# Altium footprint library Misc.PCBLIB: 58 footprints (part 3 of 4)
Each footprint in its own frame and in the unit in brackets; x right, y up, seen from the top. Pads: shape width x height; smd on the part's side, far side on the other; paste and mask are expansions set on the pad; w line width, h text height; cw(c..) or ccw(c..) is an arc to the next point about the centre after c.
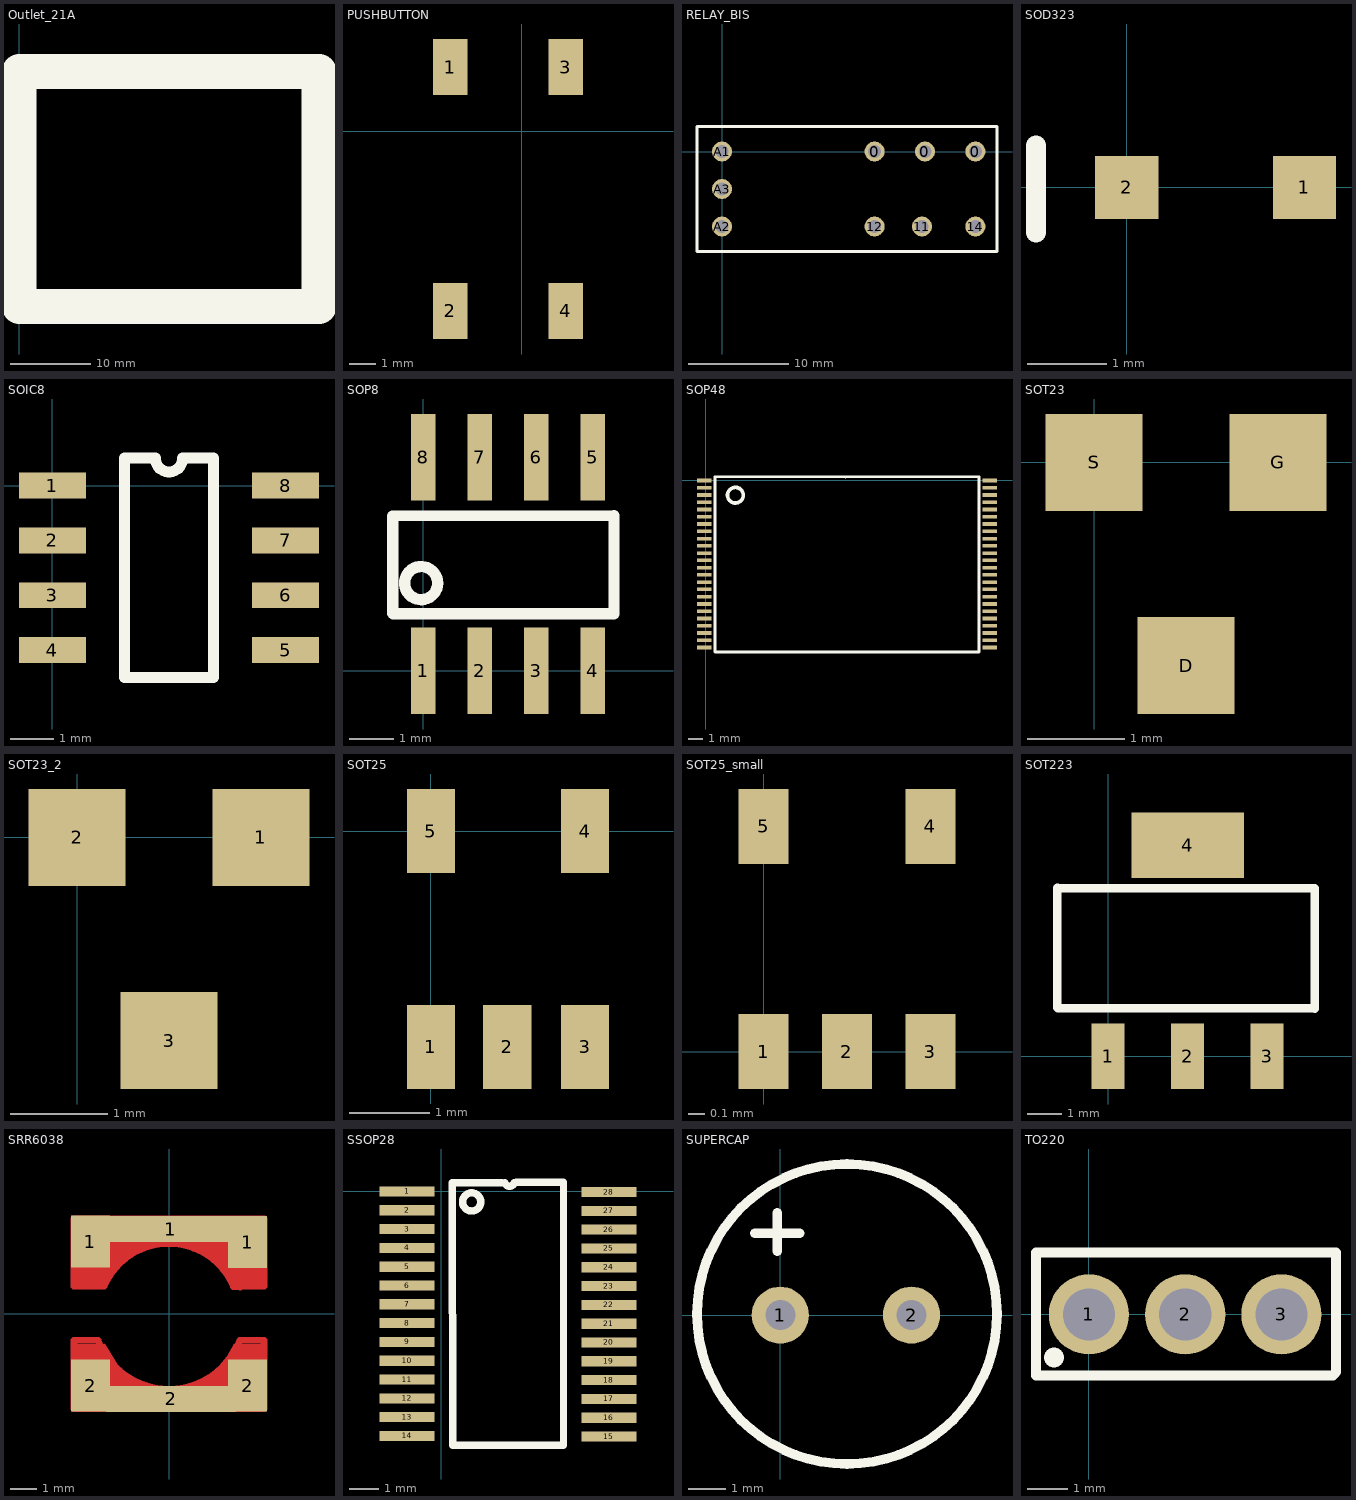
[diagram p2: the footprints below, top view; thin cyan lines are the x and y axes]

## Outlet_21A [mm]
Top Overlay:
  lines w4.4: 0,0 0,29.5 37.6,29.5 37.6,0 0,0
Multi-Layer:
  rectangle: 0,0 37.6,29.5

## PUSHBUTTON [mm]
pads (4):
  rect 1.3x2.1 smd: 1(-2.667,2.413) 2(-2.667,-6.731) 3(1.651,2.413) 4(1.651,-6.731)

## RELAY_BIS [mm]
pads (9):
  round 2 hole 1.3: 0(15.26,0) 0(20.3,0) 0(25.34,0) 11(20,-7.5) 12(15.26,-7.5) 14(25.34,-7.5) A1(0,0) A2(0,-7.5) A3(0,-3.75)
Top Overlay:
  lines w0.254: -2.5,-10 27.5,-10 27.5,2.5 -2.5,2.5 -2.5,-10

## SOD323 [mm]
pads (2):
  rect 0.8x0.8 smd: 1(2.25,0) 2(0,0)
Top Overlay:
  lines w0.254: -1.15,-0.57 -1.15,0.53

## SOIC8 [mm] "Narrow 3.9mm Body"
pads (8):
  rect 1.55x0.6 smd: 1(0,0) 2(0,-1.27) 3(0,-2.54) 4(0,-3.81) 5(5.4,-3.81) 6(5.4,-2.54) 7(5.4,-1.27) 8(5.4,0)
Top Overlay:
  lines w0.254: 1.664,-4.445 3.736,-4.445 3.736,0.635 3.017,0.635 cw(c2.7,0.635) 2.382,0.635 1.664,0.635 1.664,-4.445

## SOP8 [mm]
pads (8):
  rect 0.55x1.95 smd: 1(0,0) 2(1.27,0) 3(2.54,0) 4(3.81,0) 5(3.81,4.8) 6(2.54,4.8) 7(1.27,4.8) 8(0,4.8)
Top Overlay:
  circle w0.254: c-0.05,1.97 r0.372
  lines w0.254: -0.69,1.29 -0.69,3.48 4.29,3.49 4.29,1.28 -0.68,1.28

## SOP48 [mm]
pads (48):
  rect 1x0.25 smd: 1(-0.11,0) 2(-0.11,-0.5) 3(-0.11,-1) 4(-0.11,-1.5) 5(-0.11,-2) 6(-0.11,-2.5) 7(-0.11,-3) 8(-0.11,-3.5) 9(-0.11,-4) 10(-0.11,-4.5) 11(-0.11,-5) 12(-0.11,-5.5) 13(-0.11,-6) 14(-0.11,-6.5) 15(-0.11,-7) 16(-0.11,-7.5) 17(-0.11,-8) 18(-0.11,-8.5) 19(-0.11,-9) 20(-0.11,-9.5) 21(-0.11,-10) 22(-0.11,-10.5) 23(-0.11,-11) 24(-0.11,-11.5) 25(19.54,-11.5) 26(19.54,-11) 27(19.54,-10.5) 28(19.54,-10) 29(19.54,-9.5) 30(19.54,-9) 31(19.54,-8.5) 32(19.54,-8) 33(19.54,-7.5) 34(19.54,-7) 35(19.54,-6.5) 36(19.54,-6) 37(19.54,-5.5) 38(19.54,-5) 39(19.54,-4.5) 40(19.54,-4) 41(19.54,-3.5) 42(19.54,-3) 43(19.54,-2.5) 44(19.54,-2) 45(19.54,-1.5) 46(19.54,-1) 47(19.54,-0.5) 48(19.54,0)
Top Overlay:
  circle w0.254: c2.032,-1.016 r0.539
  lines w0.2: 9.625,0.25 0.635,0.254 0.635,-5.715 0.635,-11.811 18.796,-11.811 18.796,-5.588 18.796,0.254 9.652,0.254

## SOT23 [mm]
pads (3):
  rect 1x1 smd: D(0.95,-2.1) G(1.9,0) S(0,0)

## SOT23_2 [mm]
pads (3):
  rect 1x1 smd: 1(1.9,0) 2(0,0) 3(0.95,-2.1)

## SOT25 [mm]
pads (5):
  rect 0.6x1.05 smd: 1(0,-2.69) 2(0.95,-2.69) 3(1.92,-2.69) 4(1.92,0) 5(0,0)

## SOT25_small [mm]
pads (5):
  rect 0.3x0.45 smd: 1(0,0) 2(0.5,0) 3(1,0) 4(1,1.35) 5(0,1.35)

## SOT223 [mm]
pads (4):
  rect 0.95x1.9 smd: 1(0,0) 2(2.3,0) 3(4.6,0)
  rect 3.25x1.9 smd: 4(2.3,6.1)
Top Overlay:
  lines w0.254: -1.47,1.41 -1.47,4.87 ; -1.46,4.86 5.98,4.85 5.98,1.38 -1.45,1.39

## SRR6038 [mm]
pads (6):
  rect 1.5x2 smd: 1(-3.02,2.77) 1(3.02,2.75) 2(-3.01,-2.77) 2(3.02,-2.77)
  rect 5x1 smd: 1(0.07,3.25) 2(0.08,-3.28)
Top Layer:
  region: 3.66,-3.77 -3.64,-3.77 -3.64,-1.17 -2.467,-1.157 -1.89,-2.1 -1.04,-2.61 -0.42,-2.79 0.33,-2.78 0.87,-2.68 1.25,-2.48 1.62,-2.27 1.94,-2 2.24,-1.64 2.504,-1.164 3.66,-1.17
  region: -3.65,3.65 3.65,3.65 3.65,1.05 2.477,1.037 1.9,1.98 1.05,2.49 0.43,2.67 -0.32,2.66 -0.86,2.56 -1.24,2.36 -1.61,2.15 -1.93,1.88 -2.23,1.52 -2.494,1.044 -3.65,1.05
  lines w0.254: -2.725,-1.028 ccw(c0,0.01) 2.727,-1.021 ; -2.72,-1.04 -2.73,-1.03 -3.65,-1.03 -3.65,-3.65 3.65,-3.65 3.65,-1.03 2.75,-1.03 2.74,-1.04 ; -2.7,1.07 -2.494,1.044 ; 2.74,1.02 2.477,1.037 ; -2.494,1.044 cw(c-0.01,0) 2.477,1.037 ; -2.494,1.044 -3.65,1.05 -3.65,3.65 3.65,3.65 3.65,1.05 2.477,1.037

## SSOP28 [mm]
pads (28):
  rect 1.9x0.35 smd: 1(-1.17,0) 2(-1.17,-0.65) 3(-1.17,-1.3) 4(-1.17,-1.95) 5(-1.17,-2.6) 6(-1.17,-3.25) 7(-1.17,-3.9) 8(-1.17,-4.55) 9(-1.17,-5.2) 10(-1.17,-5.85) 11(-1.17,-6.5) 12(-1.17,-7.15) 13(-1.17,-7.8) 14(-1.17,-8.45) 15(5.8,-8.47) 16(5.8,-7.82) 17(5.8,-7.17) 18(5.8,-6.52) 19(5.8,-5.87) 20(5.8,-5.22) 21(5.8,-4.57) 22(5.8,-3.92) 23(5.8,-3.27) 24(5.8,-2.62) 25(5.8,-1.97) 26(5.8,-1.32) 27(5.8,-0.67) 28(5.8,-0.02)
Top Overlay:
  circle w0.254: c1.06,-0.36 r0.314
  lines w0.254: 2.12,0.3 0.39,0.3 0.404,-8.775 4.236,-8.775 4.236,0.325 2.6,0.32 ; 2.213,0.303 ccw(c2.37,0.345) 2.528,0.308

## SUPERCAP [mil]
pads (2):
  round 60 hole 31.5: 1(0,0) 2(137.8,0)
Top Overlay:
  circle w10: c70.08,1.18 r157.48
  lines w10: -26.77,85.83 20.47,85.83 ; -3.15,66.93 -3.15,107.48

## TO220 [mm]
pads (3):
  round 2 hole 1.3: 1(0,0) 2(2.4,0) 3(4.8,0)
Top Overlay:
  circle w0.5: c-0.87,-1.08 r0
  lines w0.254: 6.16,1.51 6.16,-1.44 6.08,-1.52 -1.32,-1.52 -1.32,1.54 6.16,1.54